# EAGLE library part LTC6820IMS#PBF (library LTC6820IMS#PBF)
Interface - Specialized isoSPI Iso Communications Int Source: Datasheet <https://componentsearchengine.com/Datasheets/1/LTC6820IMS#PBF.pdf>
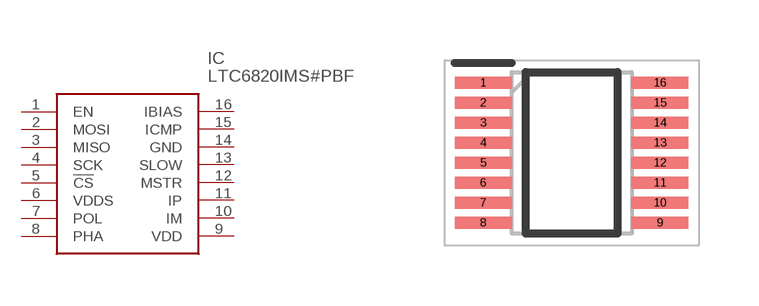
[diagram p0: symbol with the pads of SOP50P490X110-16N; footprint SOP50P490X110-16N]

Designator prefix IC

## LTC6820IMS#PBF (Arrow_Part_Number: LTC6820IMS#PBF; Arrow_Price-Stock: https://www.arrow.com/en/products/ltc6820imspbf/analog-devices; Description: Interface - Specialized isoSPI Iso Communications Int; Height: 1.1mm; Manufacturer_Name: Analog Devices; Manufacturer_Part_Number: LTC6820IMS#PBF; Mouser_Part_Number: 584-LTC6820IMS#PBF; Mouser_Price-Stock: https://www.mouser.com/Search/Refine.aspx?Keyword=584-LTC6820IMS%23PBF)  [SOP50P490X110-16N]
1  EN
2  MOSI
3  MISO
4  SCK
5  !CS
6  VDDS
7  POL
8  PHA
9  VDD
10  IM
11  IP
12  MSTR
13  SLOW
14  GND
15  ICMP
16  IBIAS

## Footprint SOP50P490X110-16N (pad centres in mm)
msop-16
smd 1.425 x 0.3: 1 -2.212,1.75; 2 -2.212,1.25; 3 -2.212,0.75; 4 -2.212,0.25; 5 -2.212,-0.25; 6 -2.212,-0.75; 7 -2.212,-1.25; 8 -2.212,-1.75; 9 2.212,-1.75; 10 2.212,-1.25; 11 2.212,-0.75; 12 2.212,-0.25; 13 2.212,0.25; 14 2.212,0.75; 15 2.212,1.25; 16 2.212,1.75